# Altium footprint library SOIC.PcbLib: 46 footprints (part 1 of 3)
Each footprint in its own frame and in the unit in brackets; x right, y up, seen from the top. Pads: shape width x height; smd on the part's side, far side on the other; paste and mask are expansions set on the pad; w line width, h text height; cw(c..) or ccw(c..) is an arc to the next point about the centre after c.
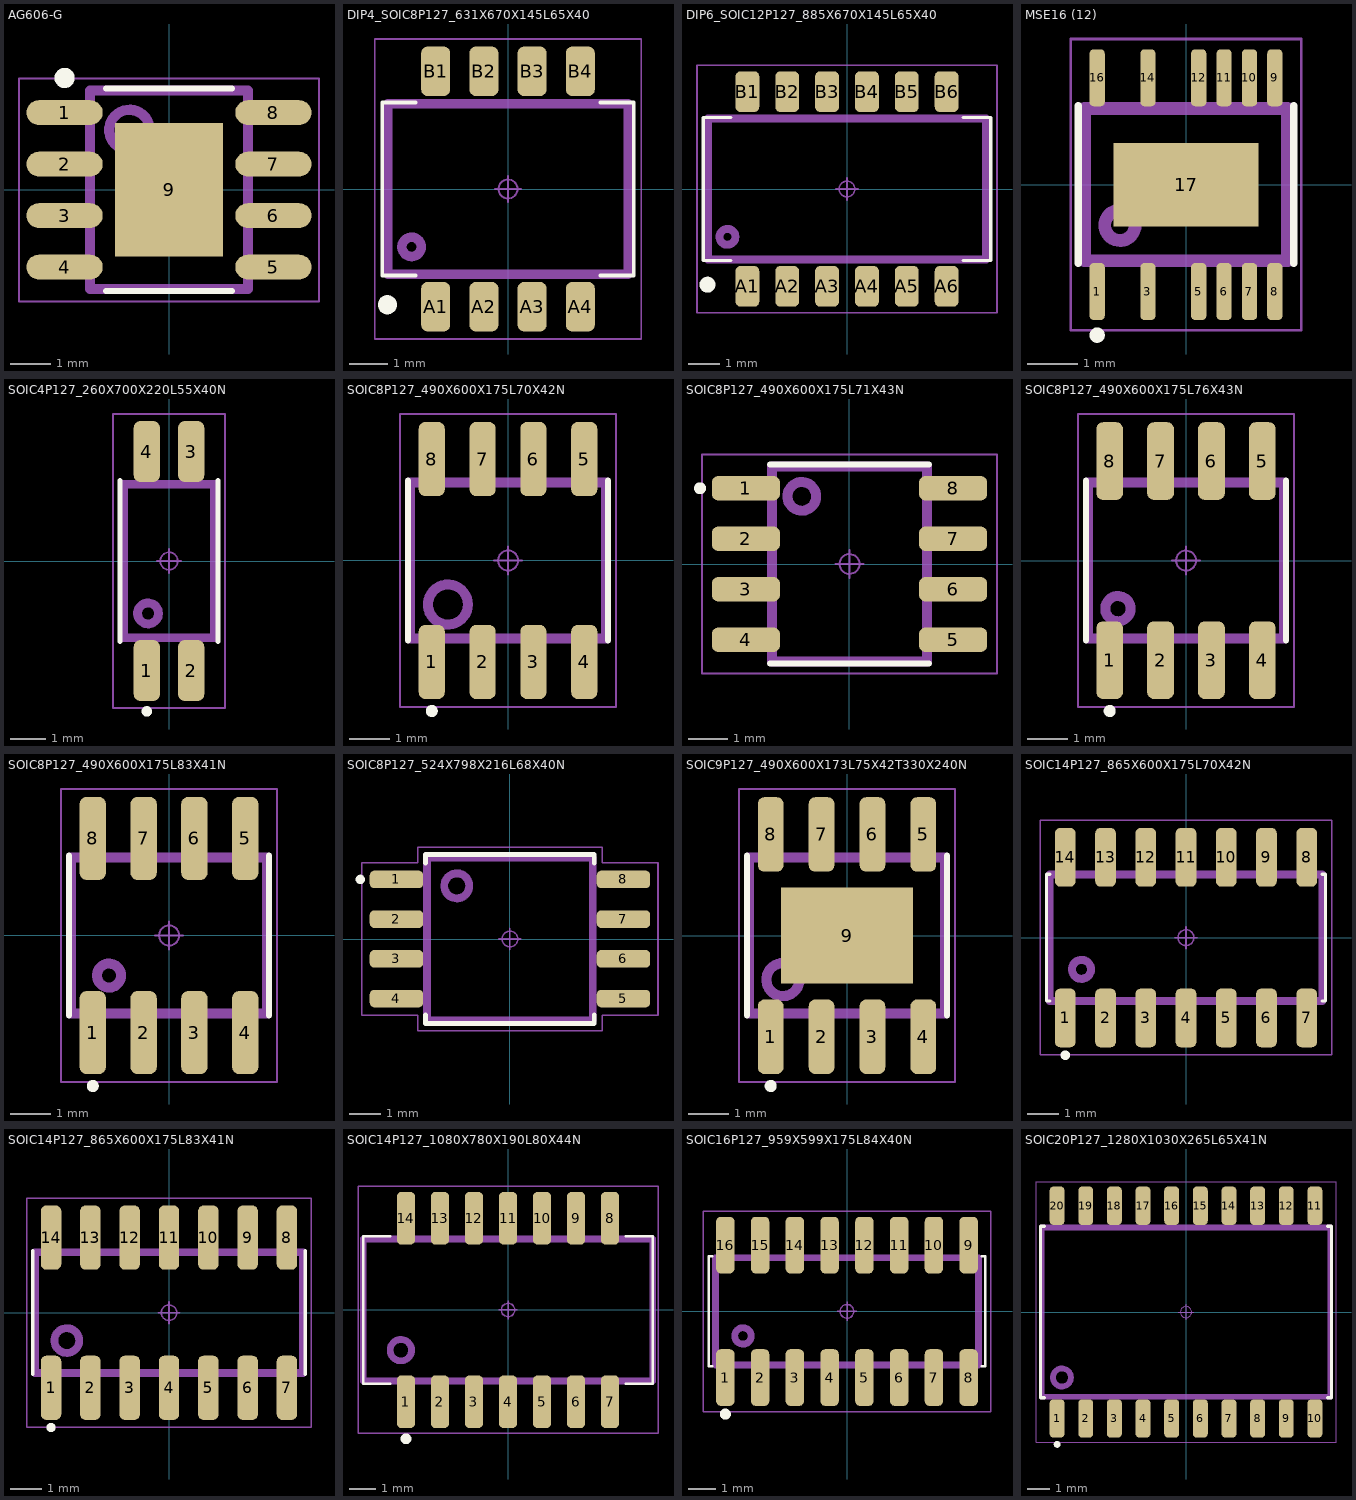
[diagram p0: the footprints below, top view; thin cyan lines are the x and y axes]

## AG606-G [mm] "SOP, 8-Leads, Body 4.90x3.90mm, Pitch 1.27mm, Thermal Pad 3.30x2.67mm, Modified AG606-G"
height 1.62
pads (9):
  oval 1.88x0.61 smd: 1(-2.575,1.905) 2(-2.575,0.635) 3(-2.575,-0.635) 4(-2.575,-1.905) 5(2.575,-1.905) 6(2.575,-0.635) 7(2.575,0.635) 8(2.575,1.905)
  rect 2.67x3.3 smd: 9(0,0)
Top Overlay:
  circle w0.25: c-2.575,2.76 r0.125
  lines w0.15: -1.55,-2.5 1.55,-2.5 ; -1.55,2.5 1.55,2.5
Top Assembly:
  circle w0.25: c-0.975,1.475 r0.5
  lines w0.25: -1.95,-2.45 -1.95,2.45 1.95,2.45 1.95,-2.45 -1.95,-2.45
  text ".Designator" at -1.3,-0.718 h1.5
Top Courtyard:
  lines w0.05: -3.7,-2.75 -3.7,2.75 3.7,2.75 3.7,-2.75 -3.7,-2.75
  lines w0.1: -0.5,0 0.5,0 ; 0,-0.5 0,0.5
3D body "AG606-G.step": height 1.62, standoff 0, extent -3,-2.45 3,2.45

## DIP4_SOIC8P127_631X670X145L65X40 [mm] "DIP4 based on Small Outline IC (SOIC), 1.27 mm pitch; 8 pin, 6.31 mm L X 4.50 mm W X 1.45 mm H body"
height 1.45
pads (8):
  rrect42% 0.76x1.3 smd: A1(-1.905,-3.1) A2(-0.635,-3.1) A3(0.635,-3.1) A4(1.905,-3.1) B1(-1.905,3.1) B2(-0.635,3.1) B3(0.635,3.1) B4(1.905,3.1)
Top Overlay:
  circle w0.25: c-3.175,-3.048 r0.127
  lines w0.1: -2.435,-2.28 -3.31,-2.28 -3.31,2.28 -2.435,2.28 ; 2.435,-2.28 3.31,-2.28 3.31,2.28 2.435,2.28
Top Assembly:
  circle w0.25: c-2.54,-1.524 r0.254
  lines w0.25: -3.16,-2.25 3.16,-2.25 3.16,2.25 -3.16,2.25 -3.16,-2.25
  text ".Designator" at -2.8,-0.4 h1.5
Top Courtyard:
  circle w0.05: c0,0 r0.25
  lines w0.05: -0.35,0 0.35,0 ; 0,-0.35 0,0.35 ; -3.51,-3.95 3.51,-3.95 3.51,3.95 -3.51,3.95 -3.51,-3.95
3D body "DIP8_SOIC8P127_631X670X145L65X40.STEP": height 1.85, standoff 0, extent -3.155,-3.35 3.155,3.35

## DIP6_SOIC12P127_885X670X145L65X40 [mm] "DIP6 based on Small Outline IC (SOIC), 1.27 mm pitch; 12 pin, 8.85 mm L X 4.50 mm W X 1.45 mm H body"
height 1.45
pads (12):
  rrect42% 0.76x1.3 smd: A1(-3.175,-3.1) A2(-1.905,-3.1) A3(-0.635,-3.1) A4(0.635,-3.1) A5(1.905,-3.1) A6(3.175,-3.1) B1(-3.175,3.1) B2(-1.905,3.1) B3(-0.635,3.1) B4(0.635,3.1) B5(1.905,3.1) B6(3.175,3.1)
Top Overlay:
  circle w0.25: c-4.445,-3.048 r0.127
  lines w0.1: -3.705,-2.28 -4.58,-2.28 -4.58,2.28 -3.705,2.28 ; 3.705,-2.28 4.58,-2.28 4.58,2.28 3.705,2.28
Top Assembly:
  circle w0.25: c-3.81,-1.524 r0.254
  lines w0.25: -4.43,-2.25 4.43,-2.25 4.43,2.25 -4.43,2.25 -4.43,-2.25
  text ".Designator" at -2.9,-0.3 h1.5
Top Courtyard:
  circle w0.05: c0,0 r0.25
  lines w0.05: -0.35,0 0.35,0 ; 0,-0.35 0,0.35 ; -4.78,-3.95 4.78,-3.95 4.78,3.95 -4.78,3.95 -4.78,-3.95
3D body "DIP6_SOIC12P127_885X670X150L60X40.STEP": height 1.8, standoff 0, extent -4.425,-3.35 4.425,3.35

## MSE16 (12) [mm] "Small Outline Pkg (SOP with Tab), 0.50 mm pitch; 12 pin, 4.04 mm L X 3.00 mm W X 1.10 mm H body"
height 1.1
pads (13):
  rrect53% 0.3x1.12 smd: 1(-1.75,-2.105) 3(-0.75,-2.105) 5(0.25,-2.105) 6(0.75,-2.105) 7(1.25,-2.105) 8(1.75,-2.105) 9(1.75,2.105) 10(1.25,2.105) 11(0.75,2.105) 12(0.25,2.105) 14(-0.75,2.105) 16(-1.75,2.105)
  rect 2.85x1.65 smd paste-2.85: 17(0,0)
Top Overlay:
  circle w0.15: c-1.75,-2.965 r0.075
  lines w0.15: -2.125,-1.55 -2.125,1.55 ; 2.125,-1.55 2.125,1.55
Top Paste:
  region: 1.27,-0.67 0.15,-0.67 0.15,-0.15 1.27,-0.15
  region: 1.27,0.15 0.15,0.15 0.15,0.67 1.27,0.67
  region: -0.15,-0.67 -1.27,-0.67 -1.27,-0.15 -0.15,-0.15
  region: -0.15,0.15 -1.27,0.15 -1.27,0.67 -0.15,0.67
Top Assembly:
  circle w0.25: c-1.3,-0.8 r0.3
  lines w0.25: -2,-1.5 -2,1.5 2,1.5 2,-1.5 -2,-1.5
  text ".Designator" at -1.1,-0.3 h1.5
Top Courtyard:
  circle w0.05: c0,0 r0.25
  lines w0.05: -0.35,0 0.35,0 ; 0,-0.35 0,0.35 ; -2.27,-2.87 -2.27,2.87 2.27,2.87 2.27,-2.87 -2.27,-2.87
3D body "SOP17_13P50_404X490X110L53X22T285X165.STEP": height 1.1, standoff 0, extent -2.02,-2.45 2.02,2.45

## SOIC4P127_260X700X220L55X40N [mm] "Small Outline IC (SOIC), 1.27 mm pitch; 4 pin, 2.60 mm L X 4.40 mm W X 2.20 mm H body"
height 2.2
pads (4):
  rrect49% 0.75x1.74 smd: 1(-0.635,-3.135) 2(0.635,-3.135) 3(0.635,3.135) 4(-0.635,3.135)
Top Overlay:
  circle w0.15: c-0.635,-4.305 r0.075
  lines w0.15: -1.4,-2.3 -1.4,2.3 ; 1.4,-2.3 1.4,2.3
Top Assembly:
  circle w0.25: c-0.6,-1.5 r0.3
  lines w0.25: -1.3,-2.2 -1.3,2.2 1.3,2.2 1.3,-2.2 -1.3,-2.2
  text ".Designator" at -3.378,-0.339 h1.5
Top Courtyard:
  circle w0.05: c0,0 r0.25
  lines w0.05: -0.35,0 0.35,0 ; 0,-0.35 0,0.35 ; -1.6,-4.21 -1.6,4.21 1.6,4.21 1.6,-4.21 -1.6,-4.21
3D body "SOIC4P127_260X700X220L55X40.STEP": height 2.2, standoff 0, extent -1.3,-3.5 1.3,3.5

## SOIC8P127_490X600X175L70X42N [mm] "Small Outline IC (SOIC), 1.27 mm pitch; 8 pin, 4.90 mm L X 3.90 mm W X 1.75 mm H body"
height 1.75
pads (8):
  rrect49% 0.65x1.85 smd: 1(-1.905,-2.535) 2(-0.635,-2.535) 3(0.635,-2.535) 4(1.905,-2.535) 5(1.905,2.535) 6(0.635,2.535) 7(-0.635,2.535) 8(-1.905,2.535)
Top Overlay:
  circle w0.15: c-1.905,-3.76 r0.075
  lines w0.15: -2.5,-2 -2.5,2 ; 2.5,-2 2.5,2
Top Assembly:
  circle w0.25: c-1.5,-1.1 r0.5
  lines w0.25: -2.45,-1.95 -2.45,1.95 2.45,1.95 2.45,-1.95 -2.45,-1.95
  text ".Designator" at -3.378,-0.339 h1.5
Top Courtyard:
  circle w0.05: c0,0 r0.25
  lines w0.05: -0.35,0 0.35,0 ; 0,-0.35 0,0.35 ; -2.7,-3.66 -2.7,3.66 2.7,3.66 2.7,-3.66 -2.7,-3.66
3D body "SOIC8P127_490X600X175L70X42.STEP": height 1.75, standoff 0, extent -2.45,-3 2.45,3

## SOIC8P127_490X600X175L71X43N [mm] "Small Outline IC (SOIC), 1.27 mm pitch; 8 pin, 4.90 mm L X 3.90 mm W X 1.75 mm H body"
height 1.75
pads (8):
  rrect49% 1.71x0.61 smd: 1(-2.605,1.905) 2(-2.605,0.635) 3(-2.605,-0.635) 4(-2.605,-1.905) 5(2.605,-1.905) 6(2.605,-0.635) 7(2.605,0.635) 8(2.605,1.905)
Top Overlay:
  circle w0.15: c-3.76,1.905 r0.075
  lines w0.15: -2,-2.5 2,-2.5 ; -2,2.5 2,2.5
Top Assembly:
  circle w0.25: c-1.2,1.7 r0.361
  lines w0.25: -1.95,-2.45 1.95,-2.45 1.95,2.45 -1.95,2.45 -1.95,-2.45
  text ".Designator" at -3.378,-0.339 h1.5
Top Courtyard:
  circle w0.05: c0,0 r0.25
  lines w0.05: -0.35,0 0.35,0 ; 0,-0.35 0,0.35 ; -3.71,-2.75 3.71,-2.75 3.71,2.75 -3.71,2.75 -3.71,-2.75
3D body "SOIC8P127_490X600X175L71X43.STEP": height 1.75, standoff 0, extent -3,-2.45 3,2.45

## SOIC8P127_490X600X175L76X43N [mm] "Small Outline IC (SOIC), 1.27 mm pitch; 8 pin, 4.90 mm L X 3.90 mm W X 1.75 mm H body"
height 1.75
pads (8):
  rrect51% 0.67x1.94 smd: 1(-1.905,-2.485) 2(-0.635,-2.485) 3(0.635,-2.485) 4(1.905,-2.485) 5(1.905,2.485) 6(0.635,2.485) 7(-0.635,2.485) 8(-1.905,2.485)
Top Overlay:
  circle w0.15: c-1.905,-3.755 r0.075
  lines w0.15: -2.5,-2 -2.5,2 ; 2.5,-2 2.5,2
Top Assembly:
  circle w0.25: c-1.7,-1.2 r0.316
  lines w0.25: -2.45,-1.95 -2.45,1.95 2.45,1.95 2.45,-1.95 -2.45,-1.95
  text ".Designator" at -3.378,-0.339 h1.5
Top Courtyard:
  circle w0.05: c0,0 r0.25
  lines w0.05: -0.35,0 0.35,0 ; 0,-0.35 0,0.35 ; -2.7,-3.66 -2.7,3.66 2.7,3.66 2.7,-3.66 -2.7,-3.66
3D body "SOIC8P127_490X600X175L76X43.STEP": height 1.75, standoff 0, extent -2.45,-3 2.45,3

## SOIC8P127_490X600X175L83X41N [mm] "Small Outline IC (SOIC), 1.27 mm pitch; 8 pin, 4.90 mm L X 3.90 mm W X 1.75 mm H body"
height 1.75
pads (8):
  rrect52% 0.66x2.07 smd: 1(-1.905,-2.425) 2(-0.635,-2.425) 3(0.635,-2.425) 4(1.905,-2.425) 5(1.905,2.425) 6(0.635,2.425) 7(-0.635,2.425) 8(-1.905,2.425)
Top Overlay:
  circle w0.15: c-1.905,-3.76 r0.075
  lines w0.15: -2.5,-2 -2.5,2 ; 2.5,-2 2.5,2
Top Assembly:
  circle w0.25: c-1.5,-1 r0.3
  lines w0.25: -2.45,-1.95 2.45,-1.95 2.45,1.95 -2.45,1.95 -2.45,-1.95
  text ".Designator" at -2.253,-0.295 h1.2
Top Courtyard:
  circle w0.05: c0,0 r0.25
  lines w0.05: -0.35,0 0.35,0 ; 0,-0.35 0,0.35 ; -2.7,-3.66 2.7,-3.66 2.7,3.66 -2.7,3.66 -2.7,-3.66
3D body "SOIC8P127_490X600X175L83X41.STEP": height 1.75, standoff 0, extent -2.45,-3 2.45,3

## SOIC8P127_524X798X216L68X40N [mm] "Small Outline IC (SOIC), 1.27 mm pitch; 8 pin, 5.24 mm L X 5.29 mm W X 2.16 mm H body"
height 2.16
pads (8):
  rrect50% 1.71x0.56 smd: 1(-3.63,1.905) 2(-3.63,0.635) 3(-3.63,-0.635) 4(-3.63,-1.905) 5(3.63,-1.905) 6(3.63,-0.635) 7(3.63,0.635) 8(3.63,1.905)
Top Overlay:
  circle w0.15: c-4.785,1.905 r0.075
  lines w0.15: -2.7,-2.425 -2.7,-2.7 2.7,-2.7 2.7,-2.425 ; -2.7,2.425 -2.7,2.7 2.7,2.7 2.7,2.425
Top Assembly:
  circle w0.25: c-1.7,1.7 r0.4
  lines w0.25: -2.65,-2.6 2.65,-2.6 2.65,2.6 -2.65,2.6 -2.65,-2.6
  text ".Designator" at -2.704,-0.271 h1.2
Top Courtyard:
  circle w0.05: c0,0 r0.25
  lines w0.05: -0.35,0 0.35,0 ; 0,-0.35 0,0.35 ; -4.735,-2.435 -2.95,-2.435 -2.95,-2.93 2.95,-2.93 2.95,-2.435 4.735,-2.435 4.735,2.435 2.95,2.435 2.95,2.93 -2.95,2.93 -2.95,2.435 -4.735,2.435 -4.735,-2.435
3D body "SOIC8P127_524X798X216L68X40.STEP": height 2.16, standoff 0, extent -3.99,-2.62 3.99,2.62

## SOIC9P127_490X600X173L75X42T330X240N [mm] "Small Outline IC (SOIC with Tab), 1.27 mm pitch; 8 pin, 4.90 mm L X 3.905 mm W X 1.73 mm H body"
height 1.73
pads (9):
  rrect50% 0.64x1.86 smd: 1(-1.905,-2.525) 2(-0.635,-2.525) 3(0.635,-2.525) 4(1.905,-2.525) 5(1.905,2.525) 6(0.635,2.525) 7(-0.635,2.525) 8(-1.905,2.525)
  rect 3.3x2.4 smd paste-3.3: 9(0,0)
Top Overlay:
  circle w0.15: c-1.905,-3.755 r0.075
  lines w0.15: -2.5,-2 -2.5,2 ; 2.5,-2 2.5,2
Top Paste:
  region: -0.175,0.175 -1.475,0.175 -1.475,1.025 -0.175,1.025
  region: -0.175,-1.025 -1.475,-1.025 -1.475,-0.175 -0.175,-0.175
  region: 1.475,0.175 0.175,0.175 0.175,1.025 1.475,1.025
  region: 1.475,-1.025 0.175,-1.025 0.175,-0.175 1.475,-0.175
Top Assembly:
  circle w0.254: c-1.6,-1.1 r0.412
  lines w0.25: -2.45,-1.95 2.45,-1.95 2.45,1.95 -2.45,1.95 -2.45,-1.95
  text ".Designator" at -3.378,-0.339 h1.5
Top Courtyard:
  circle w0.05: c0,0 r0.25
  lines w0.05: -0.35,0 0.35,0 ; 0,-0.35 0,0.35 ; -2.7,-3.66 2.7,-3.66 2.7,3.66 -2.7,3.66 -2.7,-3.66
3D body "SOIC9P127_490X600X173L75X42T330X240.STEP": height 1.73, standoff 0, extent -2.45,-3 2.45,3

## SOIC14P127_865X600X175L70X42N [mm] "Small Outline IC (SOIC), 1.27 mm pitch; 14 pin, 8.65 mm L X 3.90 mm W X 1.75 mm H body"
height 1.75
pads (14):
  rrect49% 0.65x1.85 smd: 1(-3.81,-2.535) 2(-2.54,-2.535) 3(-1.27,-2.535) 4(0,-2.535) 5(1.27,-2.535) 6(2.54,-2.535) 7(3.81,-2.535) 8(3.81,2.535) 9(2.54,2.535) 10(1.27,2.535) 11(0,2.535) 12(-1.27,2.535) 13(-2.54,2.535) 14(-3.81,2.535)
Top Overlay:
  circle w0.15: c-3.81,-3.71 r0.075
  lines w0.1: -4.3,-2 -4.4,-2 -4.4,2 -4.3,2 ; 4.3,-2 4.4,-2 4.4,2 4.3,2
Top Assembly:
  circle w0.25: c-3.3,-1 r0.3
  lines w0.25: -4.3,-2 4.3,-2 4.3,2 -4.3,2 -4.3,-2
  text ".Designator" at -2.8,-0.3 h1.5
Top Courtyard:
  circle w0.05: c0,0 r0.25
  lines w0.05: -0.35,0 0.35,0 ; 0,-0.35 0,0.35 ; -4.6,-3.7 4.6,-3.7 4.6,3.7 -4.6,3.7 -4.6,-3.7
3D body "SOIC14P127_865X600X175L70X42.STEP": height 1.75, standoff 0, extent -4.325,-3 4.325,3

## SOIC14P127_865X600X175L83X41N [mm] "Small Outline IC (SOIC), 1.27 mm pitch; 14 pin, 8.65 mm L X 3.90 mm W X 1.75 mm H body"
height 1.75
pads (14):
  rrect52% 0.66x2.07 smd: 1(-3.81,-2.425) 2(-2.54,-2.425) 3(-1.27,-2.425) 4(0,-2.425) 5(1.27,-2.425) 6(2.54,-2.425) 7(3.81,-2.425) 8(3.81,2.425) 9(2.54,2.425) 10(1.27,2.425) 11(0,2.425) 12(-1.27,2.425) 13(-2.54,2.425) 14(-3.81,2.425)
Top Overlay:
  circle w0.15: c-3.81,-3.71 r0.075
  lines w0.1: -4.4,-2 -4.4,2 ; 4.4,-2 4.4,2
Top Assembly:
  circle w0.25: c-3.3,-0.9 r0.4
  lines w0.25: -4.33,-1.95 4.33,-1.95 4.33,1.95 -4.33,1.95 -4.33,-1.95
  text ".Designator" at -2.3,-0.3 h1.5
Top Courtyard:
  circle w0.05: c0,0 r0.25
  lines w0.05: -0.35,0 0.35,0 ; 0,-0.35 0,0.35 ; -4.6,-3.7 4.6,-3.7 4.6,3.7 -4.6,3.7 -4.6,-3.7
3D body "SOIC14P127_865X600X175L83X41.STEP": height 1.75, standoff 0, extent -4.325,-3 4.325,3

## SOIC14P127_1080X780X190L80X44N [mm] "Small Outline IC (SOIC), 1.27 mm pitch; 14 pin, 10.80 mm L X 5.30 mm W X 1.90 mm H body"
height 1.9
pads (14):
  rrect51% 0.67x1.97 smd: 1(-3.81,-3.425) 2(-2.54,-3.425) 3(-1.27,-3.425) 4(0,-3.425) 5(1.27,-3.425) 6(2.54,-3.425) 7(3.81,-3.425) 8(3.81,3.425) 9(2.54,3.425) 10(1.27,3.425) 11(0,3.425) 12(-1.27,3.425) 13(-2.54,3.425) 14(-3.81,3.425)
Top Overlay:
  circle w0.2: c-3.81,-4.81 r0.1
  lines w0.1: -4.395,-2.75 -5.4,-2.75 -5.4,2.75 -4.395,2.75 ; 4.395,-2.75 5.4,-2.75 5.4,2.75 4.395,2.75
Top Assembly:
  circle w0.25: c-4,-1.5 r0.4
  lines w0.25: -5.4,-2.65 5.4,-2.65 5.4,2.65 -5.4,2.65 -5.4,-2.65
  text ".Designator" at -2.5,-0.3 h1.5
Top Courtyard:
  circle w0.05: c0,0 r0.25
  lines w0.05: -0.35,0 0.35,0 ; 0,-0.35 0,0.35 ; -5.6,-4.61 5.6,-4.61 5.6,4.61 -5.6,4.61 -5.6,-4.61
3D body "SOIC14P127_1080X780X190L80X44.STEP": height 1.9, standoff 0, extent -5.4,-3.9 5.4,3.9

## SOIC16P127_959X599X175L84X40N [mm] "Small Outline IC (SOIC), 1.27 mm pitch; 16 pin, 9.595 mm L X 3.91 mm W X 1.75 mm H body"
height 1.75
pads (16):
  rrect51% 0.67x2.07 smd: 1(-4.445,-2.42) 2(-3.175,-2.42) 3(-1.905,-2.42) 4(-0.635,-2.42) 5(0.635,-2.42) 6(1.905,-2.42) 7(3.175,-2.42) 8(4.445,-2.42) 9(4.445,2.42) 10(3.175,2.42) 11(1.905,2.42) 12(0.635,2.42) 13(-0.635,2.42) 14(-1.905,2.42) 15(-3.175,2.42) 16(-4.445,2.42)
Top Overlay:
  circle w0.2: c-4.445,-3.755 r0.1
  lines w0.1: -4.93,-2.01 -5.05,-2.01 -5.05,2.01 -4.93,2.01 ; 4.93,-2.01 5.05,-2.01 5.05,2.01 4.93,2.01
Top Assembly:
  circle w0.25: c-3.8,-0.9 r0.3
  lines w0.25: -4.8,-1.96 4.8,-1.96 4.8,1.96 -4.8,1.96 -4.8,-1.96
  text ".Designator" at -2.3,-0.3 h1.5
Top Courtyard:
  circle w0.05: c0,0 r0.25
  lines w0.05: -0.35,0 0.35,0 ; 0,-0.35 0,0.35 ; -5.25,-3.66 5.25,-3.66 5.25,3.66 -5.25,3.66 -5.25,-3.66
3D body "SOIC16P127_959X599X175L84X40.STEP": height 1.75, standoff 0, extent -4.798,-2.995 4.798,2.995

## SOIC20P127_1280X1030X265L65X41N [mm] "Small Outline IC (SOIC), 1.27 mm pitch; 20 pin, 12.80 mm L X 7.50 mm W X 2.65 mm H body"
height 2.65
pads (20):
  rrect52% 0.66x1.7 smd: 1(-5.715,-4.715) 2(-4.445,-4.715) 3(-3.175,-4.715) 4(-1.905,-4.715) 5(-0.635,-4.715) 6(0.635,-4.715) 7(1.905,-4.715) 8(3.175,-4.715) 9(4.445,-4.715) 10(5.715,-4.715) 11(5.715,4.715) 12(4.445,4.715) 13(3.175,4.715) 14(1.905,4.715) 15(0.635,4.715) 16(-0.635,4.715) 17(-1.905,4.715) 18(-3.175,4.715) 19(-4.445,4.715) 20(-5.715,4.715)
Top Overlay:
  circle w0.15: c-5.715,-5.865 r0.075
  lines w0.15: -6.275,-3.8 -6.45,-3.8 -6.45,3.8 -6.275,3.8 ; 6.275,-3.8 6.45,-3.8 6.45,3.8 6.275,3.8
Top Assembly:
  circle w0.25: c-5.5,-2.9 r0.4
  lines w0.25: -6.4,-3.75 -6.4,3.75 6.4,3.75 6.4,-3.75 -6.4,-3.75
  text ".Designator" at -3.378,-0.339 h1.5
Top Courtyard:
  circle w0.05: c0,0 r0.25
  lines w0.05: -0.35,0 0.35,0 ; 0,-0.35 0,0.35 ; -6.65,-5.77 -6.65,5.77 6.65,5.77 6.65,-5.77 -6.65,-5.77
3D body "SOIC20P127_1280X1030X265L65X41.STEP": height 2.65, standoff 0, extent -6.4,-5.15 6.4,5.15